# EAGLE library part 760301105 (library Wurth_Power Magnetics_WE-GDT)
WE-GDT Gate-Drive-Transformer Characteristics Excellent performances in small package (EP5) 1 or 2 secondary windings 6 different turnsratios 1500VDC insulation test voltage Operating voltage up to 80 V Applications Suitable for signal and power application Designed for gate drive application high efficient SMPS Synchronous Flyback <https://www.we-online.com/components/media/o727400v209%20multi-WE-GDT-76030110x.jpg> Details see: www.we-online.com/en/components/products/WE-GDT <www.we-online.com/catalog/WE-GDT/?utm_source=eagle_model&utm_medium=description_link&utm_campaign=eisos_eagle> Updated by Ella 2024-05-15 2024(C) Wurth Elektronik
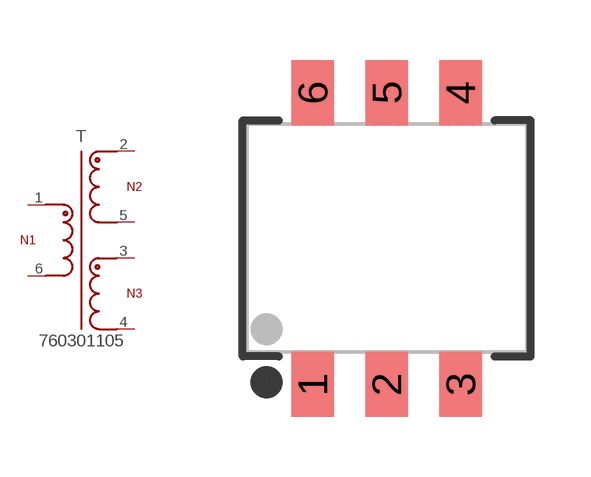
[diagram p3: symbol with the pads of WE-GDT_EP5_L7W8.5H6; footprint WE-GDT_EP5_L7W8.5H6]

Designator prefix T

## 760301105 (CWW: 9pF; DATASHEET-URL: https://www.we-online.com/redexpert/spec/760301105?ae; HEIGHT: 6mm; L: 1.7uH; LENGTH: 7mm; LS: 1700nH; MOUNT: SMT; N: 1:1:1; PART-NUMBER: 760301105; RDC1: 600mOhm; SIZE: EP5; VALUE: 760301105; VOLTAGE-TIME: 25.2uVs; VT: 1500V(AC); WIDTH: 8.5mm)  [WE-GDT_EP5_L7W8.5H6]
1  1  pas
2  2  pas
3  3  pas
4  4  pas
5  5  pas
6  6  pas

## Footprint WE-GDT_EP5_L7W8.5H6 (pad centres in mm)
WE-GDT Gate-Drive-Transformer Size EP5, SMT 6pins LXWXH=7X8.5X6mm
smd 1.07 x 1.63: 1 -1.85,-3.645; 2 0,-3.645; 3 1.85,-3.645; 4 1.85,3.645; 5 0,3.645; 6 -1.85,3.645